# EAGLE library part DISP_LCD (library untitled)
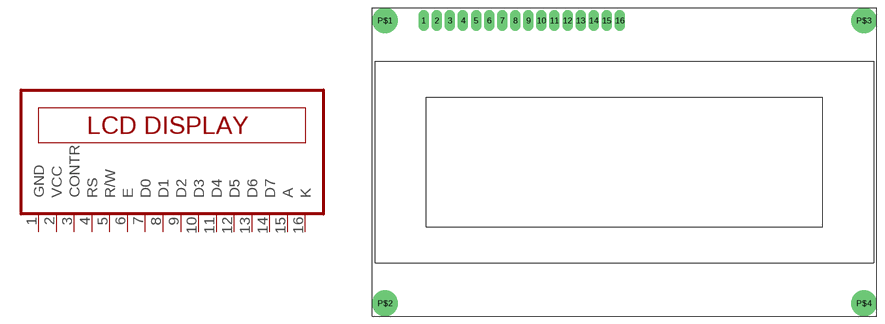
[diagram p23: symbol with the pads of DISP_LCD_4X20; footprint DISP_LCD_4X20]

Designator prefix LCD

## DISP_LCD-4X20  [DISP_LCD_4X20]
1  GND  sup
2  VCC  sup
3  CONTR  in
4  RS  in
5  R/W  in
6  E  in
7  D0  in
8  D1  in
9  D2  in
10  D3  in
11  D4  in
12  D5  in
13  D6  in
14  D7  in
15  A  sup
16  K  sup

## Footprint DISP_LCD_4X20 (pad centres in mm)
drill 1 pad 2 long: 1 -39,27.5; 2 -36.46,27.5; 3 -33.92,27.5; 4 -31.38,27.5; 5 -28.84,27.5; 6 -26.3,27.5; 7 -23.76,27.5; 8 -21.22,27.5; 9 -18.68,27.5; 10 -16.14,27.5; 11 -13.6,27.5; 12 -11.06,27.5; 13 -8.52,27.5; 14 -5.98,27.5; 15 -3.44,27.5; 16 -0.9,27.5
drill 2.5 pad 5 round: P$1 -46.5,27.5; P$2 -46.5,-27.5; P$3 46.5,27.5; P$4 46.5,-27.5